# Altium schematic symbol library SCH - RF - ANTENNA - BASIC ANTENNA.SCHLIB: 1 symbol
Pins are listed as number, name and electrical type; pins without a type are passive.

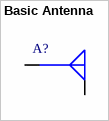
[diagram p0: symbol Basic Antenna]

## Basic Antenna
designator A?
pins: G, S